# EAGLE library part LVDC_LATCH (library LVDC_Latch)
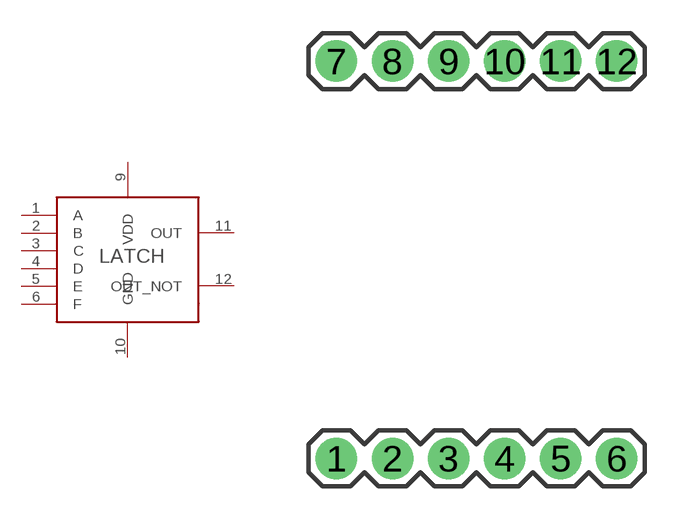
[diagram p0: symbol with the pads of LVDC_LATCH; footprint LVDC_LATCH]

Designator prefix -

## LVDC_LATCH  [LVDC_LATCH]
1  A
2  B
3  C
4  D
5  E
6  F
9  VDD
10  GND
11  OUT
12  OUT_NOT

## Footprint LVDC_LATCH (pad centres in mm)
drill 1.016 pad 1.88: 1 0,0; 2 2.54,0; 3 5.08,0; 4 7.62,0; 5 10.16,0; 6 12.7,0; 7 0,18; 8 2.54,18; 9 5.08,18; 10 7.62,18; 11 10.16,18; 12 12.7,18